# Altium footprint library LTC2380-24.PcbLib: 1 footprints
Each footprint in its own frame and in the unit in brackets; x right, y up, seen from the top. Pads: shape width x height; smd on the part's side, far side on the other; paste and mask are expansions set on the pad; w line width, h text height; cw(c..) or ccw(c..) is an arc to the next point about the centre after c.
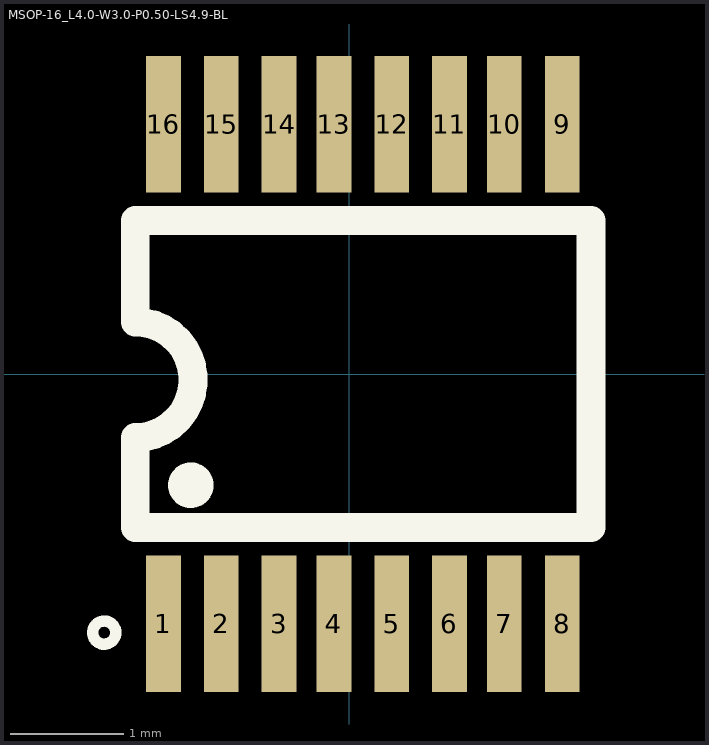
[diagram p0: the footprint, top view; thin cyan lines are the x and y axes]

## MSOP-16_L4.0-W3.0-P0.50-LS4.9-BL [mil]
pads (16):
  rect 12x47.24 smd: 1(-64.25,-86.5) 2(-44.25,-86.5) 3(-24.25,-86.5) 4(-5.25,-86.5) 5(14.75,-86.5) 6(34.75,-86.5) 7(53.75,-86.5) 8(73.75,-86.5) 9(73.75,86.5) 10(53.75,86.5) 11(34.75,86.5) 12(14.75,86.5) 13(-5.25,86.5) 14(-24.25,86.5) 15(-44.25,86.5) 16(-64.25,86.5)
Top Overlay:
  circle w3.94: c-84.75,-89.5 r4
  circle w7.87: c-54.75,-38.5 r3.94
  lines w10: -73.99,-22 -73.99,-53.15 83.75,-53.15 83.75,53.15 -73.99,53.15 -73.99,18 cw(c-73.97,-2) -73.95,-22